# EAGLE library part TRANSFO_PM (library Transformateurs-CI)
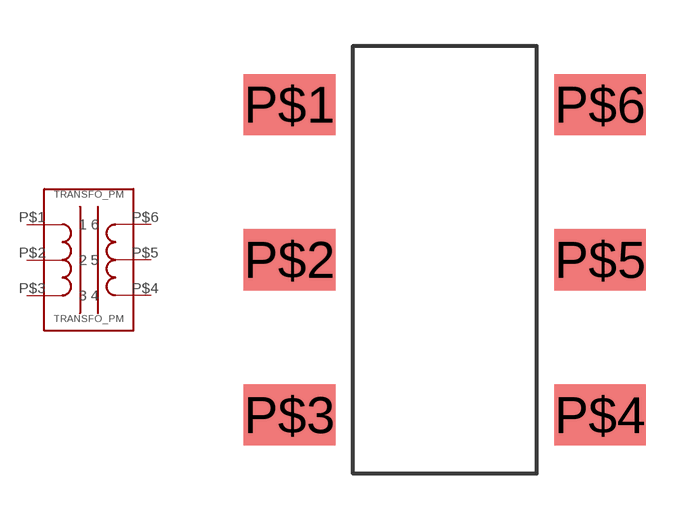
[diagram p0: symbol with the pads of TRANSFO_PM; footprint TRANSFO_PM]

Designator prefix TRANSFO_PM

## TRANSFO_PMTRANSFO_PM  [TRANSFO_PM]
P$1  1
P$2  2
P$3  3
P$4  4
P$5  5
P$6  6

## Footprint TRANSFO_PM (pad centres in mm)
smd 3 x 2: P$1 -5.08,5.08; P$2 -5.08,0; P$3 -5.08,-5.08; P$4 5.08,-5.08; P$5 5.08,0; P$6 5.08,5.08